# Altium footprint library led.PCBLIB: 116 footprints (part 8 of 8)
Each footprint in its own frame and in the unit in brackets; x right, y up, seen from the top. Pads: shape width x height; smd on the part's side, far side on the other; paste and mask are expansions set on the pad; w line width, h text height; cw(c..) or ccw(c..) is an arc to the next point about the centre after c.
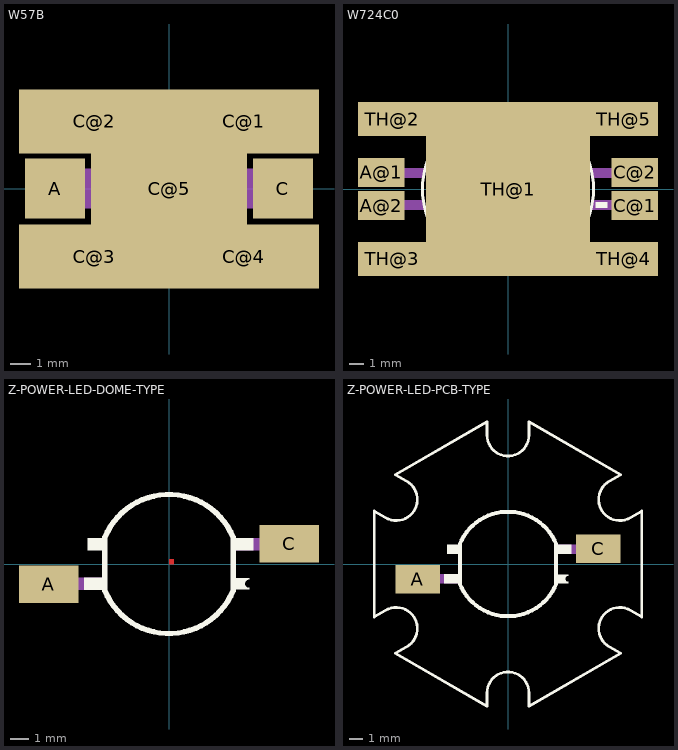
[diagram p7: the footprints below, top view; thin cyan lines are the x and y axes]

## W57B [mm]
pads (7):
  rect 3x3 smd: A(-5.7,0) C(5.7,0)
  rect 7.5x3.2 smd: C@1(3.75,3.375) C@2(-3.75,3.375) C@3(-3.75,-3.4) C@4(3.75,-3.4)
  rect 7.8x4 smd: C@5(0,0)
Top Overlay:
  lines w0.203: -3.475,-1.8 ccw(c-2.275,-1.8) -2.275,-3 2.3,-3 ccw(c2.3,-1.8) 3.5,-1.8 3.5,1.8 ccw(c2.3,1.8) 2.3,3 -2.275,3 ccw(c-2.275,1.8) -3.475,1.8 -3.475,-1.8
Top Paste:
  circle w0: c0,0 r1.775
Top Solder:
  circle w0: c0,0 r2
  rectangle: -7.375,-1.675 -4.025,1.675
  rectangle: 4.025,-1.675 7.375,1.675
Mechanical 16:
  circle w0.102: c0,0 r0.895
  circle w0.102: c1.324,1.36 r0.323
  rectangle: -0.25,-0.25 0.25,0.25
  rectangle: -5.575,-1 -3.55,1
  region: 5.575,1 3.55,1 3.55,-1 5.575,-1
  lines w0.102: -1.127,-0.716 ccw(c0.013,0) -1.127,0.716 ; -1.056,-0.447 -1.628,-0.447 cw(c-1.628,0) -2.075,0 cw(c-1.628,0) -1.628,0.447 -1.038,0.447 ; -2.344,0 cw(c-1.664,0) -1.664,0.68 -1.181,0.68 -1.002,0.411 ccw(c-0.142,0.009) -1.002,-0.394 -1.181,-0.698 -1.646,-0.698 cw(c-1.646,0) -2.344,0

## W724C0 [mm]
pads (9):
  rect 3.2x2 smd: A@1(-8.75,1.15) A@2(-8.75,-1.15) C@1(8.75,-1.15) C@2(8.75,1.15)
  rect 11.3x12 smd: TH@1(0,0)
  rect 4.7x2.35 smd: TH@2(-8,4.825) TH@3(-8,-4.825) TH@4(8,-4.825) TH@5(8,4.825)
Top Overlay:
  circle w0.203: c0,0 r5.9
  rectangle: 6.025,-1.3 6.85,-0.9
Top Paste:
  region: -0.375,0 -2.925,2.55 -3.077,2.375 -3.337,1.99 -3.549,1.578 -3.711,1.143 -3.82,0.692 -3.875,0.232 -3.875,-0.232 -3.82,-0.692 -3.711,-1.143 -3.549,-1.578 -3.337,-1.99 -3.077,-2.375 -2.925,-2.55
  region: 0,-0.375 -2.55,-2.925 -2.375,-3.077 -1.99,-3.337 -1.578,-3.549 -1.143,-3.711 -0.692,-3.82 -0.232,-3.875 0.232,-3.875 0.692,-3.82 1.143,-3.711 1.578,-3.549 1.99,-3.337 2.375,-3.077 2.55,-2.925
  region: 0.375,0 2.925,-2.55 3.077,-2.375 3.337,-1.99 3.549,-1.578 3.711,-1.143 3.82,-0.692 3.875,-0.232 3.875,0.232 3.82,0.692 3.711,1.143 3.549,1.578 3.337,1.99 3.077,2.375 2.925,2.55
  region: 0,0.375 2.55,2.925 2.375,3.077 1.99,3.337 1.578,3.549 1.143,3.711 0.692,3.82 0.232,3.875 -0.232,3.875 -0.692,3.82 -1.143,3.711 -1.578,3.549 -1.99,3.337 -2.375,3.077 -2.55,2.925
Top Solder:
  circle w0: c0,0 r4
Mechanical 16:
  circle w0: c0,0 r4.5
  region: 7.625,-0.75 5.8,-0.75 5.8,-1.45 7.625,-1.45
  region: 7.625,1.45 5.8,1.45 5.8,0.75 7.625,0.75
  rectangle: -9.25,0.375 -7.625,1.85
  rectangle: -9.25,-1.85 -7.625,-0.35
  region: 9.25,-0.375 7.625,-0.375 7.625,-1.85 9.25,-1.85
  region: 9.25,1.85 7.625,1.85 7.625,0.35 9.25,0.35
  rectangle: -7.625,0.75 -5.8,1.45
  rectangle: -7.625,-1.45 -5.8,-0.75

## Z-POWER-LED-DOME-TYPE [mil]
pads (2):
  rect 129.92x82.68 smd: A(-261.81,-44.09) C(261.81,44.09)
Top Layer:
  region: 0,0 10,0 10,10 0,10
Top Overlay:
  rectangle: -177.17,29.53 -139.76,57.09
  rectangle: -185.04,-57.09 -138.78,-29.53
  rectangle: 137.8,29.53 184.06,57.09
  region: 143.7,-31.5 175.2,-31.5 175.2,-33.46 173.3,-33.55 169.76,-34.86 167.02,-37.46 165.53,-40.93 165.53,-44.7 167.02,-48.17 169.76,-50.77 173.3,-52.08 175.2,-52.17 175.2,-55.12 143.7,-55.12
  lines w11.81: -139.76,-58.07 ccw(c0,-0.37) 139.76,-58.07 139.76,58.07 ccw(c0,0.37) -139.76,58.07 -139.76,-58.07
Top Paste:
  region: -14.76,0 -86.61,71.85 -93.03,64.43 -103.04,47.54 -109.9,29.14 -113.38,9.82 -113.38,-9.82 -109.9,-29.14 -103.04,-47.54 -93.03,-64.43 -86.61,-71.85
  region: 0,-14.76 -71.85,-86.61 -64.43,-93.03 -47.54,-103.04 -29.14,-109.9 -9.82,-113.38 9.82,-113.38 29.14,-109.9 47.54,-103.04 64.43,-93.03 71.85,-86.61
  region: 14.76,0 86.61,-71.85 93.03,-64.43 103.04,-47.54 109.9,-29.14 113.38,-9.82 113.38,9.82 109.9,29.14 103.04,47.54 93.03,64.43 86.61,71.85
  region: 0,14.76 71.85,86.61 64.43,93.03 47.54,103.04 29.14,109.9 9.82,113.38 -9.82,113.38 -29.14,109.9 -47.54,103.04 -64.43,93.03 -71.85,86.61
Top Solder:
  circle w0: c0,0 r125.98
Mechanical 16:
  region: 221.46,57.09 142.72,57.09 142.72,29.53 221.46,29.53
  rectangle: -285.43,-72.83 -221.46,-13.78
  region: 285.43,72.83 221.46,72.83 221.46,13.78 285.43,13.78
  rectangle: -221.46,-57.09 -138.78,-29.53

## Z-POWER-LED-PCB-TYPE [mil]
pads (2):
  rect 129.92x82.68 smd: A(-261.81,-44.09) C(261.81,44.09)
Top Overlay:
  rectangle: -177.17,29.53 -139.76,57.09
  rectangle: -185.04,-57.09 -138.78,-29.53
  rectangle: 137.8,29.53 184.06,57.09
  region: 143.7,-31.5 175.2,-31.5 175.2,-33.46 173.3,-33.55 169.76,-34.86 167.02,-37.46 165.53,-40.93 165.53,-44.7 167.02,-48.17 169.76,-50.77 173.3,-52.08 175.2,-52.17 175.2,-55.12 143.7,-55.12
  lines w8: -387.8,-153.54 -387.8,153.54 ; -387.66,-153.35 -354.42,-134.16 cw(c-323.9,-187) -293.39,-239.85 -326.64,-259.05 ; -387.66,153.35 -354.42,134.16 ccw(c-323.9,187) -293.39,239.85 -326.64,259.05 ; -326.77,-258.86 -61.02,-412.4 -61.02,-374.02 cw(c0,-374.02) 61.02,-374.02 61.02,-412.4 326.77,-258.86 ; -326.77,258.86 -61.02,412.4 -61.02,374.02 ccw(c0,374.02) 61.02,374.02 61.02,412.4 326.77,258.86 ; 326.64,-259.05 293.39,-239.85 cw(c323.9,-187) 354.42,-134.16 387.66,-153.35 ; 326.64,259.05 293.39,239.85 ccw(c323.9,187) 354.42,134.16 387.66,153.35 ; 387.8,-153.54 387.8,153.54
  lines w11.81: -139.76,-58.07 ccw(c0,-0.37) 139.76,-58.07 139.76,58.07 ccw(c0,0.37) -139.76,58.07 -139.76,-58.07
Top Paste:
  circle w0: c0,0 r118.11
Top Solder:
  circle w0: c0,0 r125.98
Mechanical 16:
  region: 221.46,57.09 142.72,57.09 142.72,29.53 221.46,29.53
  rectangle: -285.43,-72.83 -221.46,-13.78
  region: 285.43,72.83 221.46,72.83 221.46,13.78 285.43,13.78
  rectangle: -221.46,-57.09 -138.78,-29.53